# Altium schematic symbol library Schlib1.SchLib: 1 symbol
Pins are listed as number, name and electrical type; pins without a type are passive.

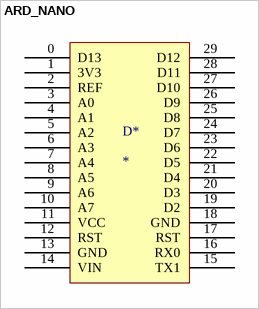
[diagram p0: symbol ARD_NANO]

## ARD_NANO
designator D*
footprint DIP30
pins: 0 D13, 1 3V3, 2 REF, 3 A0, 4 A1, 5 A2, 6 A3, 7 A4, 8 A5, 9 A6, 10 A7, 11 VCC, 12 RST, 13 GND, 14 VIN, 15 TX1, 16 RX0, 17 RST, 18 GND, 19 D2, 20 D3, 21 D4, 22 D5, 23 D6, 24 D7, 25 D8, 26 D9, 27 D10, 28 D11, 29 D12